# Altium footprint library Wurth_Elektronik_Passive_rev16a.PCBLIB: 810 footprints (part 10 of 51)
Each footprint in its own frame and in the unit in brackets; x right, y up, seen from the top. Pads: shape width x height; smd on the part's side, far side on the other; paste and mask are expansions set on the pad; w line width, h text height; cw(c..) or ccw(c..) is an arc to the next point about the centre after c.
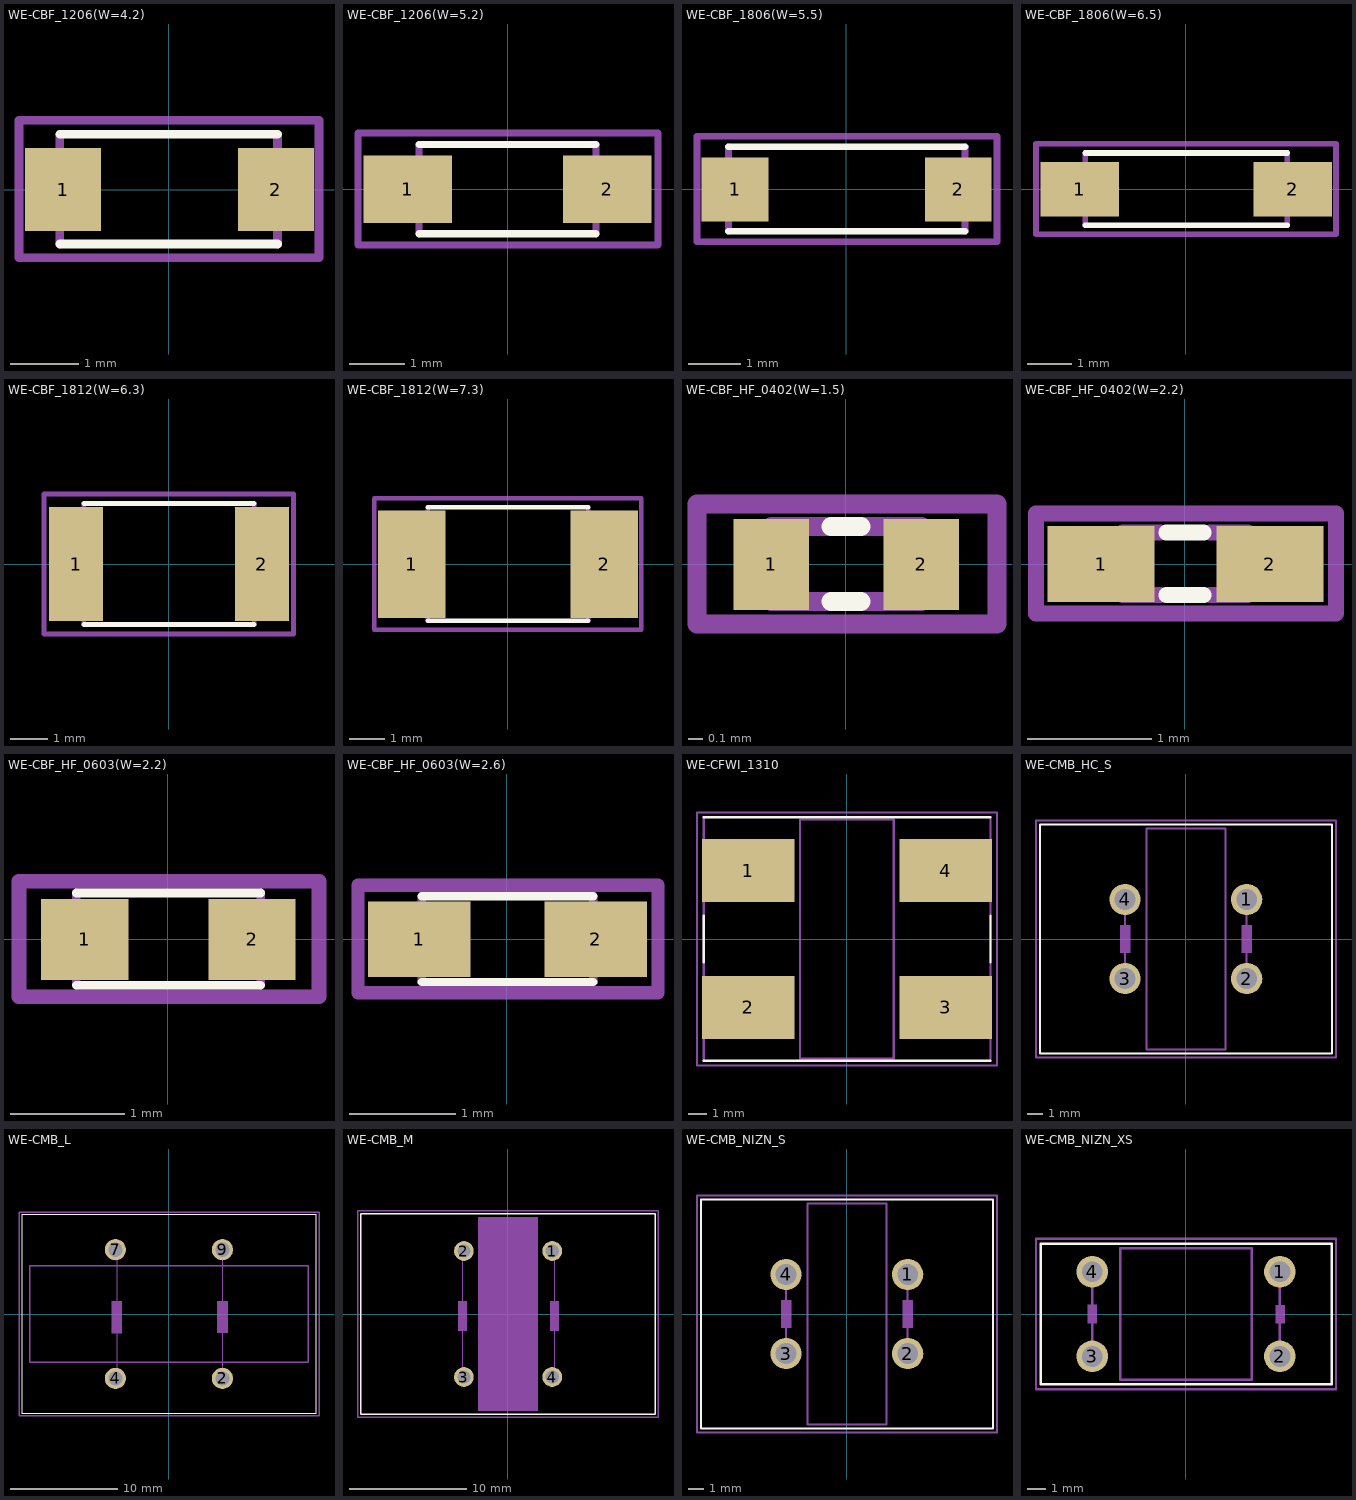
[diagram p9: the footprints below, top view; thin cyan lines are the x and y axes]

## WE-CBF_1206(W=4.2) [mil]
pads (2):
  rect 44x48 smd: 1(-61.02,0) 2(62,0)
Top Overlay:
  lines w5: -62.99,-31.5 63,-31.5 ; -62.99,32 63,32
Mechanical 2:
  text ">NAME" at -50,50 h15.5
Mechanical 4:
  text ">VALUE" at -46.06,-53.94 h15.5
Mechanical 16:
  lines w5: -62.99,-31.5 -62.99,32 ; 63,-31.5 63,32
Mechanical 27:
  lines w5: -86.61,-39.37 -86.61,40 87,40 87,-39.37 -86.61,-39.37

## WE-CBF_1206(W=5.2) [mil]
pads (2):
  rect 63x48 smd: 1(-70.87,0) 2(71,0)
Top Overlay:
  lines w5: -62.99,-31.5 63,-31.5 ; -62.99,32 63,32
Mechanical 2:
  text ">NAME" at -50,50 h15.5
Mechanical 4:
  text ">VALUE" at -50,-53.94 h15.5
Mechanical 16:
  lines w5: -62.99,-31.5 -62.99,32 ; 63,-31.5 63,32
Mechanical 27:
  lines w5: -106.3,-39.37 -106.3,40 107,40 107,-39.37 -106.3,-39.37

## WE-CBF_1806(W=5.5) [mil]
pads (2):
  rect 50x48 smd: 1(-83.66,0) 2(84,0)
Top Overlay:
  lines w5: -88.58,-31.5 89,-31.5 ; -88.58,32 89,32
Mechanical 2:
  text ">NAME" at -50,50 h15.5
Mechanical 4:
  text ">VALUE" at -50,-53.94 h15.5
Mechanical 16:
  lines w5: -88.58,-31.5 -88.58,32 ; 89,-31.5 89,32
Mechanical 27:
  lines w5: -112.2,-39.37 -112.2,40 113,40 113,-39.37 -112.2,-39.37

## WE-CBF_1806(W=6.5) [mil]
pads (2):
  rect 69x48 smd: 1(-93.5,0) 2(94,0)
Top Overlay:
  lines w5: -88.58,-31.5 89,-31.5 ; -88.58,32 89,32
Mechanical 2:
  text ">NAME" at -50,50 h15.5
Mechanical 4:
  text ">VALUE" at -50,-53.94 h15.5
Mechanical 16:
  lines w5: -88.58,-31.5 -88.58,32 ; 89,-31.5 89,32
Mechanical 27:
  lines w5: -131.89,-39.37 -131.89,40 132,40 132,-39.37 -131.89,-39.37

## WE-CBF_1812(W=6.3) [mil]
pads (2):
  rect 56x119 smd: 1(-96.46,0) 2(97,0)
Top Overlay:
  lines w5: -88.58,-62.99 89,-62.99 ; -88.58,63 89,63
Mechanical 2:
  text ">NAME" at -100,85 h15.5
Mechanical 4:
  text ">VALUE" at -100,-92.13 h15.5
Mechanical 16:
  lines w5: -88.58,-62.99 -88.58,63 ; 89,-62.99 89,63
Mechanical 27:
  lines w5: -129.92,-72.83 -129.92,73 130,73 130,-72.83 -129.92,-72.83

## WE-CBF_1812(W=7.3) [mil]
pads (2):
  rect 75x119 smd: 1(-106.3,0) 2(107,0)
Top Overlay:
  lines w5: -88.58,-62.99 89,-62.99 ; -88.58,63 89,63
Mechanical 2:
  text ">NAME" at -100,85 h15.5
Mechanical 4:
  text ">VALUE" at -96.06,-88.19 h15.5
Mechanical 16:
  lines w5: -88.58,-62.99 -88.58,63 ; 89,-62.99 89,63
Mechanical 27:
  lines w5: -147.64,-72.83 -147.64,73 148,73 148,-72.83 -147.64,-72.83

## WE-CBF_HF_0402(W=1.5) [mil]
pads (2):
  rect 20x24 smd: 1(-19.68,0) 2(20,0)
Top Overlay:
  lines w5: -3.94,-9.84 4,-9.84 ; -3.94,10 4,10
Mechanical 2:
  text ">NAME" at -43.31,24 h15.5
Mechanical 4:
  text ">VALUE" at -47.24,-35.43 h15.5
Mechanical 16:
  lines w5: -3.94,-9.84 -19.68,-9.84 -19.68,10 -3.94,10 ; 4,-9.84 20,-9.84 20,10 4,10
Mechanical 27:
  lines w5: -39.37,-15.75 40,-15.75 40,16 -39.37,16 -39.37,-15.75

## WE-CBF_HF_0402(W=2.2) [mil]
pads (2):
  rect 34x24 smd: 1(-26.57,0) 2(27,0)
Top Overlay:
  lines w5: -5.91,-9.84 6,-9.84 ; -5.91,10 6,10
Mechanical 2:
  text ">NAME" at -51.18,28 h15.5
Mechanical 4:
  text ">VALUE" at -51.18,-35.43 h15.5
Mechanical 16:
  lines w5: -7.87,-9.84 -19.68,-9.84 -19.68,10 -7.87,10 ; 8,-9.84 20,-9.84 20,10 8,10
Mechanical 27:
  lines w5: -47.24,-15.75 48,-15.75 48,16 -47.24,16 -47.24,-15.75

## WE-CBF_HF_0603(W=2.2) [mil]
pads (2):
  rect 30x28 smd: 1(-28.54,0) 2(29,0)
Top Overlay:
  lines w3: -31.5,-15.75 32,-15.75 ; -31.5,16 32,16
Mechanical 2:
  text ">NAME" at -58.56,-38.19 h15.5
Mechanical 4:
  text ">VALUE" at -58.56,29 h15.5
Mechanical 16:
  lines w3: -31.5,-15.75 -31.5,16 ; 32,-15.75 32,16
Mechanical 27:
  lines w5: -51.18,-19.68 52,-19.68 52,20 -51.18,20 -51.18,-19.68

## WE-CBF_HF_0603(W=2.6) [mil]
pads (2):
  rect 38x28 smd: 1(-32.48,0) 2(33,0)
Top Overlay:
  lines w3: -31.5,-15.75 32,-15.75 ; -31.5,16 32,16
Mechanical 2:
  text ">NAME" at -62.5,-38.19 h15.5
Mechanical 4:
  text ">VALUE" at -58.56,29 h15.5
Mechanical 16:
  lines w3: -31.5,-15.75 -31.5,16 ; 32,-15.75 32,16
Mechanical 27:
  lines w5: -55.12,-19.68 56,-19.68 56,20 -55.12,20 -55.12,-19.68

## WE-CFWI_1310 [mil]
pads (4):
  rect 197x134 smd: 1(-210.63,146) 2(-210.63,-145.67) 3(211,-145.67) 4(211,146)
Top Overlay:
  lines w5: -305.12,-259.84 306,-259.84 ; -305.12,-50 -305.12,50 ; -305.12,260 306,260 ; 306,-50 306,50
Mechanical 2:
  text ">NAME" at -300,300 h77.5
Mechanical 4:
  text ">VALUE" at -300,-350 h77.5
Mechanical 10:
  lines w5: -100,-255 100,-255 100,255 -100,255 -100,-255
Mechanical 16:
  lines w5: -305.12,-259.84 -305.12,260 ; 306,-259.84 306,260
Mechanical 27:
  lines w5: -319.84,-269.69 320,-269.69 320,270 -319.84,270 -319.84,-269.69

## WE-CMB_HC_S [mil]
pads (4):
  round 78 hole 52: 1(152,99) 2(152,-98.43) 3(-151.57,-98.43) 4(-151.57,99)
Top Overlay:
  lines w5: -364.17,-285.43 -364.17,286 365,286 365,-285.43 -364.17,-285.43
Mechanical 2:
  text ">NAME" at 210,390 h108.5
Mechanical 4:
  text ">VALUE" at 210,-319.37 h108.5
Mechanical 10:
  lines w5: -98.43,-275.59 99,-275.59 99,276 -98.43,276 -98.43,-275.59
Mechanical 16:
  region: 165,35 139,35 139,-34.65 165,-34.65
  region: -138.58,35 -164.57,35 -164.57,-34.65 -138.58,-34.65
  lines w5: -151.57,-98.43 -151.57,99 ; 152,-98.43 152,99
Mechanical 27:
  lines w5: -374.02,-295.28 375,-295.28 375,296 -374.02,296 -374.02,-295.28

## WE-CMB_L [mil]
pads (4):
  round 78 hole 52: 2(197,-236.22) 4(-196.85,-236.22) 7(-196.85,237) 9(197,237)
Top Overlay:
  lines w3: -541.34,-364.17 -541.34,365 542,365 542,-364.17 -541.34,-364.17
Mechanical 2:
  text ">NAME" at -519.48,424 h108.5
Mechanical 4:
  text ">VALUE" at -519.48,-496.79 h108.5
Mechanical 10:
  lines w5: -511.81,-177.17 -511.81,178 512,178 512,-177.17 -511.81,-177.17
Mechanical 16:
  rectangle: -211.05,-70.33 -171.68,48
  rectangle: 177,-70.14 217,48
  lines w3: -191.37,-208.13 -191.37,206 ; 197,-207.93 197,206
Mechanical 27:
  lines w5: -551.18,-374.02 -551.18,375 552,375 552,-374.02 -551.18,-374.02

## WE-CMB_M [mil]
pads (4):
  round 66 hole 44: 1(148,211) 2(-147.64,211) 3(-147.64,-210.63) 4(148,-210.63)
Top Overlay:
  lines w5: -492.13,-334.65 -492.13,335 493,335 493,-334.65 -492.13,-334.65
Mechanical 2:
  text ">NAME" at -450.94,405 h108.5
Mechanical 4:
  text ">VALUE" at -450.94,-485.31 h108.5
Mechanical 10:
  rectangle: -100,-324.8 100,325
Mechanical 16:
  region: -137.79,43 -167.32,43 -167.32,-56.28 -137.79,-56.28
  region: 170,43 140,43 140,-56.28 170,-56.28
  lines w3: -151.57,-208.44 -151.57,215 ; 156,-208.44 156,215
Mechanical 27:
  lines w5: -501.97,-344.49 -501.97,345 502,345 502,-344.49 -501.97,-344.49

## WE-CMB_NIZN_S [mil]
pads (4):
  round 78 hole 52: 1(152,99) 2(152,-98.43) 3(-151.57,-98.43) 4(-151.57,99)
Top Overlay:
  lines w5: -364.17,-285.43 -364.17,286 365,286 365,-285.43 -364.17,-285.43
Mechanical 2:
  text ">NAME" at -367.48,320 h108.5
Mechanical 4:
  text ">VALUE" at -367.48,-389.29 h108.5
Mechanical 10:
  lines w5: -98.43,-275.59 -98.43,276 99,276 99,-275.59 -98.43,-275.59
Mechanical 16:
  rectangle: -164.57,-34.65 -138.58,35
  rectangle: 139,-34.65 165,35
  lines w5: -151.57,-98.43 -151.57,99 ; 152,-98.43 152,99
Mechanical 27:
  lines w5: -374.02,-295.28 -374.02,296 375,296 375,-295.28 -374.02,-295.28

## WE-CMB_NIZN_XS [mil]
pads (4):
  round 66 hole 44: 1(197,89) 2(197,-88.58) 3(-196.85,-88.58) 4(-196.85,89)
Top Overlay:
  lines w5: -305.12,-147.64 -305.12,148 306,148 306,-147.64 -305.12,-147.64
Mechanical 2:
  text ">NAME" at -287.8,185 h77.5
Mechanical 4:
  text ">VALUE" at -287.8,-243.7 h77.5
Mechanical 10:
  lines w5: -137.8,-137.8 138,-137.8 138,138 -137.8,138 -137.8,-137.8
Mechanical 16:
  region: -186.93,-19.61 -186.93,19.77 -206.77,19.77 -206.77,-19.61
  region: 207.42,-19.42 207.42,19.58 187.58,19.58 187.58,-19.42
  lines w5: -196.85,-78.74 -196.85,79 ; 197,-78.74 197,79
Mechanical 27:
  lines w5: -314.96,-157.48 315,-157.48 315,158 -314.96,158 -314.96,-157.48